# Altium schematic symbol library kmilo17pet-NSC_Interface.SchLib: 1433 symbols (part 50 of 51)
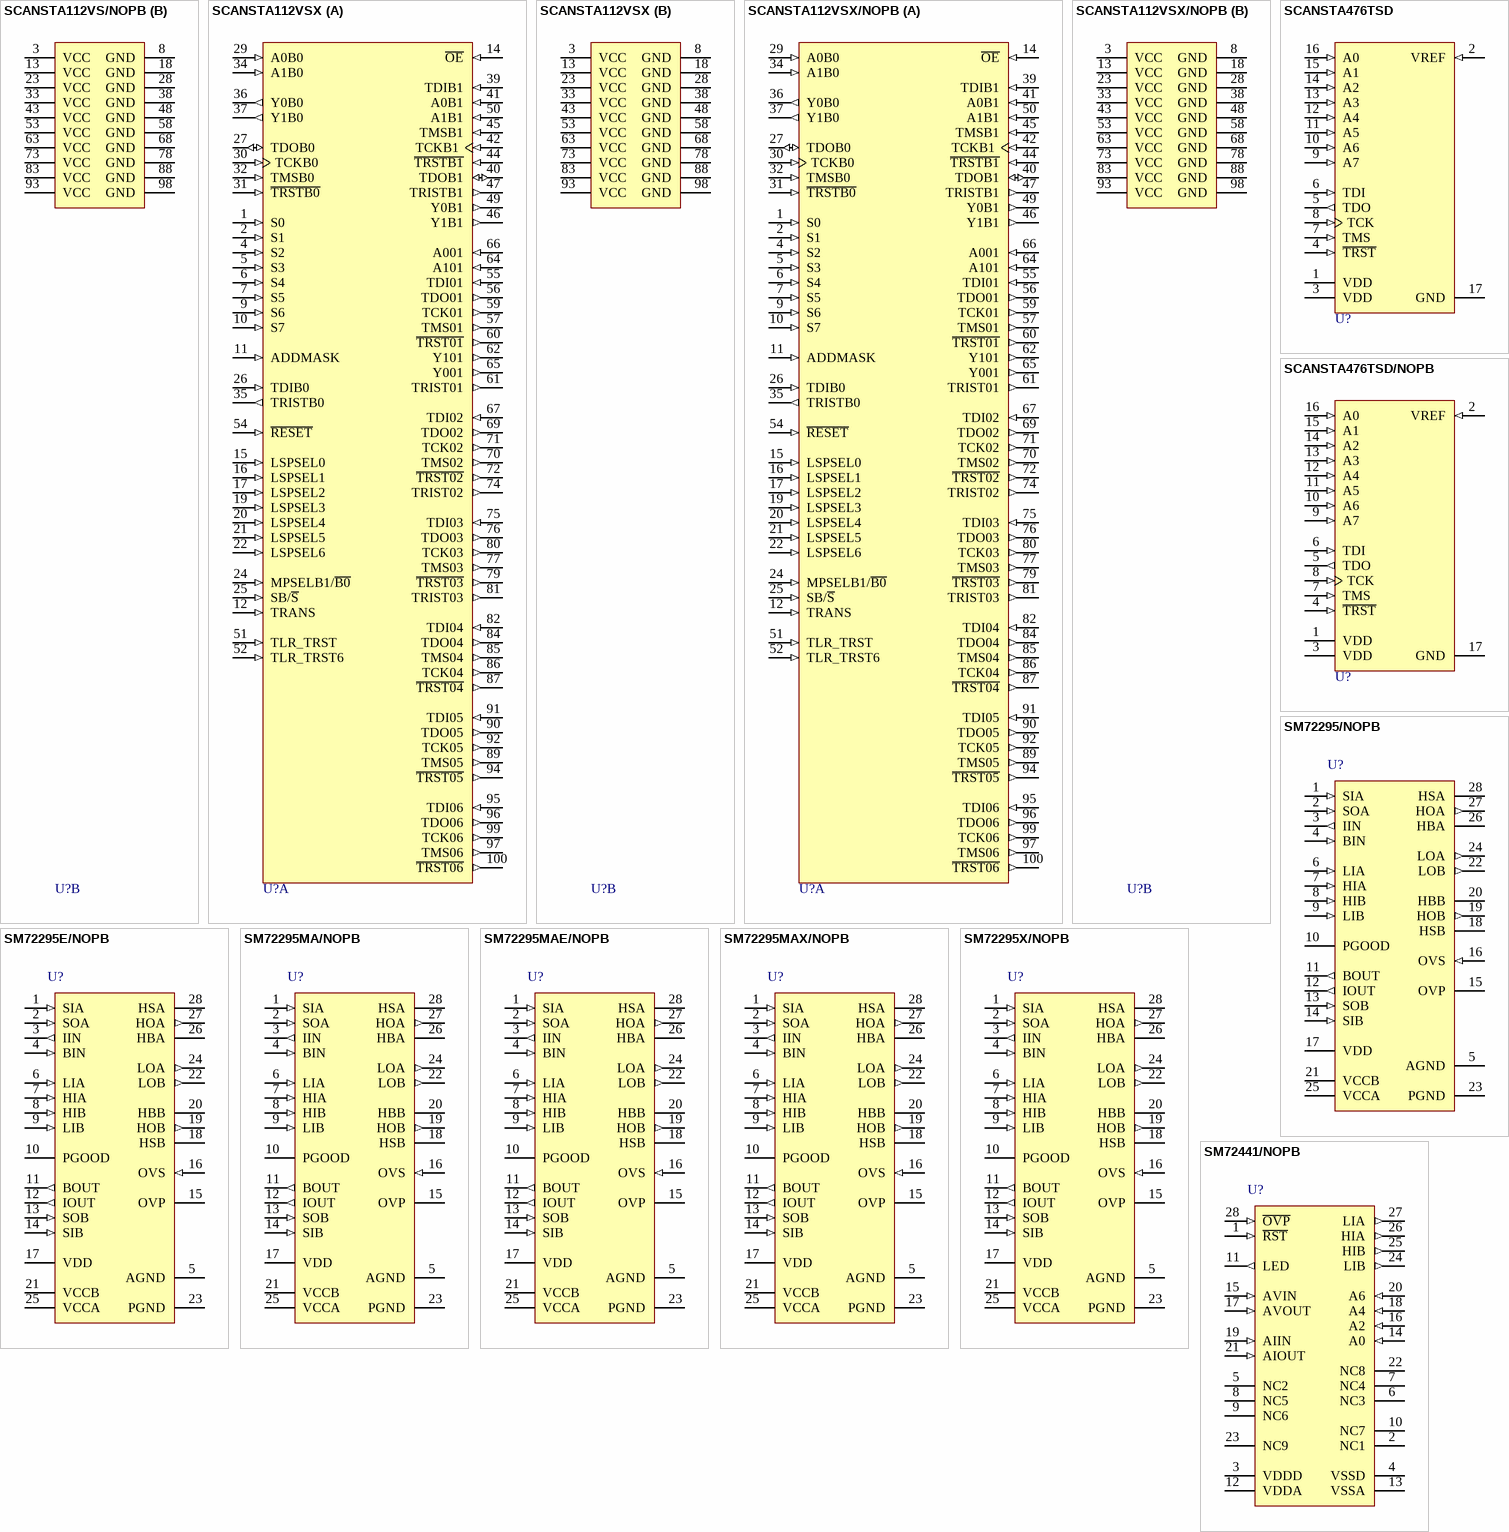
[diagram p173: symbols SCANSTA112VS/NOPB to SM72441/NOPB]

## SM72295/NOPB
designator U?
Photovoltaic Full Bridge Driver, 28-pin Wide SOIC, 28 Rail; PartNumber: SM72295/NOPB; Manufacturer: National Semiconductor; PackageTopMarking: NSUZXYTTE#*S72295; PowerWise: N; CompType: Interface IC; High-Reliability: Y; DatasheetVersion: Feb-2011; PackageVersion: revB, Nov-1997; PackageReference: M28B; PackageDescription: Molded Package, S.O., .300in Wide, 28 Lead; RoHS: Y; PinCount: 28; ComponentLink1Description: Manufacturer URL; ComponentLink1URL: http://www.national.com/; ComponentLink2Description: SM72295 Datasheet; ComponentLink2URL: http://www.national.com/ds/SM/SM72295.pdf; ComponentLink3Description: SM72295 Web Page; ComponentLink3URL: http://www.national.com/pf/SM/SM72295.html; ComponentLink4Description: M28B Package Page; ComponentLink4URL: http://www.national.com/packaging/folders/m28b.html
footprint M28B_N (SOIC, 28-Leads, Body 17.9x7.5mm, Pitch 1.27mm, IPC Medium Density)
footprint M28B_L (SOIC, 28-Leads, Body 17.9x7.5mm, Pitch 1.27mm, IPC High Density)
footprint M28B_M (SOIC, 28-Leads, Body 17.9x7.5mm, Pitch 1.27mm, IPC Low Density)
pins: 1 SIA (in) "Sense high input for input current sense transconductance amplifier", 2 SOA (in) "Sense low input for input current sense transconductance amplifier", 3 IIN (out) "Output for current sense transconductance amplifier", 4 BIN (in) "Buffered IIN", 5 AGND (power) "Analog ground", 6 LIA (in) "Low side driver control input", 7 HIA (in) "High side driver control input", 8 HIB (in) "High side driver control input", 9 LIB (in) "Low side driver control input", 10 PGOOD (oc) "Power good indicator output", 11 BOUT (out) "Buffered IOUT", 12 IOUT (out) "Output for current sense comparator.", 13 SOB (in) "Sense low input for output current sense amplifier", 14 SIB (in) "Sense high input for output current sense amplifier", 15 OVP (oc) "Over voltage indicator output", 16 OVS (in) "Sense input for over voltage", 17 VDD (power) "3.3V or 5V regulator output", 18 HSB "High side MOSFET source connection", 19 HOB (out) "High side gate driver output", 20 HBB "High side gate driver bootstrap rail.", 21 VCCB (power) "Positive gate drive supply", 22 LOB (out) "Low side gate driver output", 23 PGND (power) "Power ground return", 24 LOA (out) "Low side gate driver output", 25 VCCA (power) "Positive gate drive supply", 26 HBA "High side gate driver bootstrap rail.", 27 HOA (out) "High side gate driver output", 28 HSA "High side MOSFET source connection"

## SM72295E/NOPB
designator U?
Photovoltaic Full Bridge Driver, 28-pin Wide SOIC, 250 Reel; PartNumber: SM72295E/NOPB; Manufacturer: National Semiconductor; PackageTopMarking: NSUZXYTTE#*S72295; PowerWise: N; CompType: Interface IC; High-Reliability: Y; DatasheetVersion: Feb-2011; PackageVersion: revB, Nov-1997; PackageReference: M28B; PackageDescription: Molded Package, S.O., .300in Wide, 28 Lead; RoHS: Y; PinCount: 28; ComponentLink1Description: Manufacturer URL; ComponentLink1URL: http://www.national.com/; ComponentLink2Description: SM72295 Datasheet; ComponentLink2URL: http://www.national.com/ds/SM/SM72295.pdf; ComponentLink3Description: SM72295 Web Page; ComponentLink3URL: http://www.national.com/pf/SM/SM72295.html; ComponentLink4Description: M28B Package Page; ComponentLink4URL: http://www.national.com/packaging/folders/m28b.html
footprint M28B_N (SOIC, 28-Leads, Body 17.9x7.5mm, Pitch 1.27mm, IPC Medium Density)
footprint M28B_L (SOIC, 28-Leads, Body 17.9x7.5mm, Pitch 1.27mm, IPC High Density)
footprint M28B_M (SOIC, 28-Leads, Body 17.9x7.5mm, Pitch 1.27mm, IPC Low Density)
pins: 1 SIA (in) "Sense high input for input current sense transconductance amplifier", 2 SOA (in) "Sense low input for input current sense transconductance amplifier", 3 IIN (out) "Output for current sense transconductance amplifier", 4 BIN (in) "Buffered IIN", 5 AGND (power) "Analog ground", 6 LIA (in) "Low side driver control input", 7 HIA (in) "High side driver control input", 8 HIB (in) "High side driver control input", 9 LIB (in) "Low side driver control input", 10 PGOOD (oc) "Power good indicator output", 11 BOUT (out) "Buffered IOUT", 12 IOUT (out) "Output for current sense comparator.", 13 SOB (in) "Sense low input for output current sense amplifier", 14 SIB (in) "Sense high input for output current sense amplifier", 15 OVP (oc) "Over voltage indicator output", 16 OVS (in) "Sense input for over voltage", 17 VDD (power) "3.3V or 5V regulator output", 18 HSB "High side MOSFET source connection", 19 HOB (out) "High side gate driver output", 20 HBB "High side gate driver bootstrap rail.", 21 VCCB (power) "Positive gate drive supply", 22 LOB (out) "Low side gate driver output", 23 PGND (power) "Power ground return", 24 LOA (out) "Low side gate driver output", 25 VCCA (power) "Positive gate drive supply", 26 HBA "High side gate driver bootstrap rail.", 27 HOA (out) "High side gate driver output", 28 HSA "High side MOSFET source connection"

## SM72295MA/NOPB
designator U?
Photovoltaic Full Bridge Driver, 28-pin Wide SOIC, 26 Rail; PartNumber: SM72295MA/NOPB; Manufacturer: National Semiconductor; PackageTopMarking: NSUZXYTTE#*S72295; PowerWise: N; CompType: Interface IC; High-Reliability: Y; DatasheetVersion: Jun-2011; PackageVersion: revB, Nov-1997; PackageReference: M28B; PackageDescription: Molded Package, S.O., .300in Wide, 28 Lead; RoHS: Y; PinCount: 28; ComponentLink1Description: Manufacturer URL; ComponentLink1URL: http://www.national.com/; ComponentLink2Description: SM72295 Datasheet; ComponentLink2URL: http://www.national.com/ds/SM/SM72295.pdf; ComponentLink3Description: SM72295 Web Page; ComponentLink3URL: http://www.national.com/pf/SM/SM72295.html; ComponentLink4Description: M28B Package Page; ComponentLink4URL: http://www.national.com/packaging/folders/m28b.html
footprint M28B_N (SOIC, 28-Leads, Body 17.9x7.5mm, Pitch 1.27mm, IPC Medium Density)
footprint M28B_L (SOIC, 28-Leads, Body 17.9x7.5mm, Pitch 1.27mm, IPC High Density)
footprint M28B_M (SOIC, 28-Leads, Body 17.9x7.5mm, Pitch 1.27mm, IPC Low Density)
pins: 1 SIA (in) "Sense high input for input current sense transconductance amplifier", 2 SOA (in) "Sense low input for input current sense transconductance amplifier", 3 IIN (out) "Output for current sense transconductance amplifier", 4 BIN (in) "Buffered IIN", 5 AGND (power) "Analog ground", 6 LIA (in) "Low side driver control input", 7 HIA (in) "High side driver control input", 8 HIB (in) "High side driver control input", 9 LIB (in) "Low side driver control input", 10 PGOOD (oc) "Power good indicator output", 11 BOUT (out) "Buffered IOUT", 12 IOUT (out) "Output for current sense comparator.", 13 SOB (in) "Sense low input for output current sense amplifier", 14 SIB (in) "Sense high input for output current sense amplifier", 15 OVP (oc) "Over voltage indicator output", 16 OVS (in) "Sense input for over voltage", 17 VDD (power) "3.3V or 5V regulator output", 18 HSB "High side MOSFET source connection", 19 HOB (out) "High side gate driver output", 20 HBB "High side gate driver bootstrap rail.", 21 VCCB (power) "Positive gate drive supply", 22 LOB (out) "Low side gate driver output", 23 PGND (power) "Power ground return", 24 LOA (out) "Low side gate driver output", 25 VCCA (power) "Positive gate drive supply", 26 HBA "High side gate driver bootstrap rail.", 27 HOA (out) "High side gate driver output", 28 HSA "High side MOSFET source connection"

## SM72295MAE/NOPB
designator U?
Photovoltaic Full Bridge Driver, 28-pin Wide SOIC, 250 Reel; PartNumber: SM72295MAE/NOPB; Manufacturer: National Semiconductor; PackageTopMarking: NSUZXYTTE#*S72295; PowerWise: N; CompType: Interface IC; High-Reliability: Y; DatasheetVersion: Jun-2011; PackageVersion: revB, Nov-1997; PackageReference: M28B; PackageDescription: Molded Package, S.O., .300in Wide, 28 Lead; RoHS: Y; PinCount: 28; ComponentLink1Description: Manufacturer URL; ComponentLink1URL: http://www.national.com/; ComponentLink2Description: SM72295 Datasheet; ComponentLink2URL: http://www.national.com/ds/SM/SM72295.pdf; ComponentLink3Description: SM72295 Web Page; ComponentLink3URL: http://www.national.com/pf/SM/SM72295.html; ComponentLink4Description: M28B Package Page; ComponentLink4URL: http://www.national.com/packaging/folders/m28b.html
footprint M28B_N (SOIC, 28-Leads, Body 17.9x7.5mm, Pitch 1.27mm, IPC Medium Density)
footprint M28B_L (SOIC, 28-Leads, Body 17.9x7.5mm, Pitch 1.27mm, IPC High Density)
footprint M28B_M (SOIC, 28-Leads, Body 17.9x7.5mm, Pitch 1.27mm, IPC Low Density)
pins: 1 SIA (in) "Sense high input for input current sense transconductance amplifier", 2 SOA (in) "Sense low input for input current sense transconductance amplifier", 3 IIN (out) "Output for current sense transconductance amplifier", 4 BIN (in) "Buffered IIN", 5 AGND (power) "Analog ground", 6 LIA (in) "Low side driver control input", 7 HIA (in) "High side driver control input", 8 HIB (in) "High side driver control input", 9 LIB (in) "Low side driver control input", 10 PGOOD (oc) "Power good indicator output", 11 BOUT (out) "Buffered IOUT", 12 IOUT (out) "Output for current sense comparator.", 13 SOB (in) "Sense low input for output current sense amplifier", 14 SIB (in) "Sense high input for output current sense amplifier", 15 OVP (oc) "Over voltage indicator output", 16 OVS (in) "Sense input for over voltage", 17 VDD (power) "3.3V or 5V regulator output", 18 HSB "High side MOSFET source connection", 19 HOB (out) "High side gate driver output", 20 HBB "High side gate driver bootstrap rail.", 21 VCCB (power) "Positive gate drive supply", 22 LOB (out) "Low side gate driver output", 23 PGND (power) "Power ground return", 24 LOA (out) "Low side gate driver output", 25 VCCA (power) "Positive gate drive supply", 26 HBA "High side gate driver bootstrap rail.", 27 HOA (out) "High side gate driver output", 28 HSA "High side MOSFET source connection"

## SM72295MAX/NOPB
designator U?
Photovoltaic Full Bridge Driver, 28-pin Wide SOIC, 1000 Reel; PartNumber: SM72295MAX/NOPB; Manufacturer: National Semiconductor; PackageTopMarking: NSUZXYTTE#*S72295; PowerWise: N; CompType: Interface IC; High-Reliability: Y; DatasheetVersion: Jun-2011; PackageVersion: revB, Nov-1997; PackageReference: M28B; PackageDescription: Molded Package, S.O., .300in Wide, 28 Lead; RoHS: Y; PinCount: 28; ComponentLink1Description: Manufacturer URL; ComponentLink1URL: http://www.national.com/; ComponentLink2Description: SM72295 Datasheet; ComponentLink2URL: http://www.national.com/ds/SM/SM72295.pdf; ComponentLink3Description: SM72295 Web Page; ComponentLink3URL: http://www.national.com/pf/SM/SM72295.html; ComponentLink4Description: M28B Package Page; ComponentLink4URL: http://www.national.com/packaging/folders/m28b.html
footprint M28B_N (SOIC, 28-Leads, Body 17.9x7.5mm, Pitch 1.27mm, IPC Medium Density)
footprint M28B_L (SOIC, 28-Leads, Body 17.9x7.5mm, Pitch 1.27mm, IPC High Density)
footprint M28B_M (SOIC, 28-Leads, Body 17.9x7.5mm, Pitch 1.27mm, IPC Low Density)
pins: 1 SIA (in) "Sense high input for input current sense transconductance amplifier", 2 SOA (in) "Sense low input for input current sense transconductance amplifier", 3 IIN (out) "Output for current sense transconductance amplifier", 4 BIN (in) "Buffered IIN", 5 AGND (power) "Analog ground", 6 LIA (in) "Low side driver control input", 7 HIA (in) "High side driver control input", 8 HIB (in) "High side driver control input", 9 LIB (in) "Low side driver control input", 10 PGOOD (oc) "Power good indicator output", 11 BOUT (out) "Buffered IOUT", 12 IOUT (out) "Output for current sense comparator.", 13 SOB (in) "Sense low input for output current sense amplifier", 14 SIB (in) "Sense high input for output current sense amplifier", 15 OVP (oc) "Over voltage indicator output", 16 OVS (in) "Sense input for over voltage", 17 VDD (power) "3.3V or 5V regulator output", 18 HSB "High side MOSFET source connection", 19 HOB (out) "High side gate driver output", 20 HBB "High side gate driver bootstrap rail.", 21 VCCB (power) "Positive gate drive supply", 22 LOB (out) "Low side gate driver output", 23 PGND (power) "Power ground return", 24 LOA (out) "Low side gate driver output", 25 VCCA (power) "Positive gate drive supply", 26 HBA "High side gate driver bootstrap rail.", 27 HOA (out) "High side gate driver output", 28 HSA "High side MOSFET source connection"

## SM72295X/NOPB
designator U?
Photovoltaic Full Bridge Driver, 28-pin Wide SOIC, 1000 Reel; PartNumber: SM72295X/NOPB; Manufacturer: National Semiconductor; PackageTopMarking: NSUZXYTTE#*S72295; PowerWise: N; CompType: Interface IC; High-Reliability: Y; DatasheetVersion: Feb-2011; PackageVersion: revB, Nov-1997; PackageReference: M28B; PackageDescription: Molded Package, S.O., .300in Wide, 28 Lead; RoHS: Y; PinCount: 28; ComponentLink1Description: Manufacturer URL; ComponentLink1URL: http://www.national.com/; ComponentLink2Description: SM72295 Datasheet; ComponentLink2URL: http://www.national.com/ds/SM/SM72295.pdf; ComponentLink3Description: SM72295 Web Page; ComponentLink3URL: http://www.national.com/pf/SM/SM72295.html; ComponentLink4Description: M28B Package Page; ComponentLink4URL: http://www.national.com/packaging/folders/m28b.html
footprint M28B_N (SOIC, 28-Leads, Body 17.9x7.5mm, Pitch 1.27mm, IPC Medium Density)
footprint M28B_L (SOIC, 28-Leads, Body 17.9x7.5mm, Pitch 1.27mm, IPC High Density)
footprint M28B_M (SOIC, 28-Leads, Body 17.9x7.5mm, Pitch 1.27mm, IPC Low Density)
pins: 1 SIA (in) "Sense high input for input current sense transconductance amplifier", 2 SOA (in) "Sense low input for input current sense transconductance amplifier", 3 IIN (out) "Output for current sense transconductance amplifier", 4 BIN (in) "Buffered IIN", 5 AGND (power) "Analog ground", 6 LIA (in) "Low side driver control input", 7 HIA (in) "High side driver control input", 8 HIB (in) "High side driver control input", 9 LIB (in) "Low side driver control input", 10 PGOOD (oc) "Power good indicator output", 11 BOUT (out) "Buffered IOUT", 12 IOUT (out) "Output for current sense comparator.", 13 SOB (in) "Sense low input for output current sense amplifier", 14 SIB (in) "Sense high input for output current sense amplifier", 15 OVP (oc) "Over voltage indicator output", 16 OVS (in) "Sense input for over voltage", 17 VDD (power) "3.3V or 5V regulator output", 18 HSB "High side MOSFET source connection", 19 HOB (out) "High side gate driver output", 20 HBB "High side gate driver bootstrap rail.", 21 VCCB (power) "Positive gate drive supply", 22 LOB (out) "Low side gate driver output", 23 PGND (power) "Power ground return", 24 LOA (out) "Low side gate driver output", 25 VCCA (power) "Positive gate drive supply", 26 HBA "High side gate driver bootstrap rail.", 27 HOA (out) "High side gate driver output", 28 HSA "High side MOSFET source connection"

## SM72441/NOPB
designator U?
Programmable Maximum Power Point Tracking Controller for Photovoltaic Solar Panels, 28-pin TSSOP; PartNumber: SM72441/NOPB; Manufacturer: National Semiconductor; PackageTopMarking: NSUZXYTTE#*S72441; PowerWise: N; CompType: Interface IC; High-Reliability: Y; DatasheetVersion: Feb-2011; PackageVersion: revD, Jan-2005; PackageReference: MTC28; PackageDescription: Molded TSSOP, Jedec, 9.7 x 4.4 x 0.9mm Body, 28 Lead, 0.65mm Pitch; RoHS: Y; PinCount: 28; Code_JEDEC: MO-153-AE; ComponentLink1Description: Manufacturer URL; ComponentLink1URL: http://www.national.com/; ComponentLink2Description: SM72441 Datasheet; ComponentLink2URL: http://www.national.com/ds/SM/SM72441.pdf; ComponentLink3Description: SM72441 Web Page; ComponentLink3URL: http://www.national.com/pf/SM/SM72441.html; ComponentLink4Description: MTC28 Package Page; ComponentLink4URL: http://www.national.com/packaging/folders/mtc28.html
footprint MTC28_N (TSOP, 28-Leads, Body 9.7x4.4mm, Pitch 0.65mm, IPC Medium Density)
footprint MTC28_L (TSOP, 28-Leads, Body 9.7x4.4mm, Pitch 0.65mm, IPC High Density)
footprint MTC28_M (TSOP, 28-Leads, Body 9.7x4.4mm, Pitch 0.65mm, IPC Low Density)
pins: 1 ~{RST} (in) "Active low signal. External reset input signal to the digital circuit.", 2 NC1 "No Connect. This pin should be grounded", 3 VDDD (power) "Digital supply voltage.", 4 VSSD (power) "Digital ground. The ground return for the digital supply and signals.", 5 NC2 "No Connect. This pin should be pulled up to the 5V supply using 10k resistor.", 6 NC3 "No Connect. This pin should be grounded using a 10k resistor.", 7 NC4 "No Connect. This pin should be grounded using a 10k resistor.", 8 NC5 "No Connect. This pin should be pulled up to 5V supply using 10k resistor.", 9 NC6 "No Connect. This pin should be pulled up to 5V supply using 10k resistor.", 10 NC7 "No Connect. This pin should be grounded", 11 LED (out) "LED pin outputs a pulse during normal operation", 12 VDDA (power) "Analog supply voltage. This voltage is also used as the reference voltage.", 13 VSSA (power) "Analog ground. The ground return for the analog supply and signals.", 14 A0 (in) "A/D Input Channel 0. Connect a resistor divider to 5V supply to set the maximum output voltage.", 15 AVIN (in) "A/D Input to sense input voltage", 16 A2 (in) "A/D Input Channel 2. Connect a resistor divider to 5V supply to set MPPT update rate.", 17 AVOUT (in) "A/D Input to sense the output voltage.", 18 A4 (in) "A/D Input Channel 4. Connect a resistor divider to 5V supply to set the maximum output current.", 19 AIIN (in) "A/D Input to sense input current.", 20 A6 (in) "A/D Input Channel 6. Connect a resistor divider to 5V supply to set the maximum output voltage slew rate.", 21 AIOUT (in) "A/D Input to sense the output current.", 22 NC8 "No Connect. This pin should be grounded using a 10k resistor.", 23 NC9 "No Connect. This pin should be connected with 150k pull-up resistor to 5V supply.", 24 LIB (out) "Low side boost PWM output", 25 HIB (out) "High side boost PWM output", 26 HIA (out) "High side buck PWM output", 27 LIA (out) "Low side buck PWM output", 28 ~{OVP} (in) "Overvoltage Protection Pin. Active Low. SM72441 will reset once voltage on this pin drops below its threshold voltage."

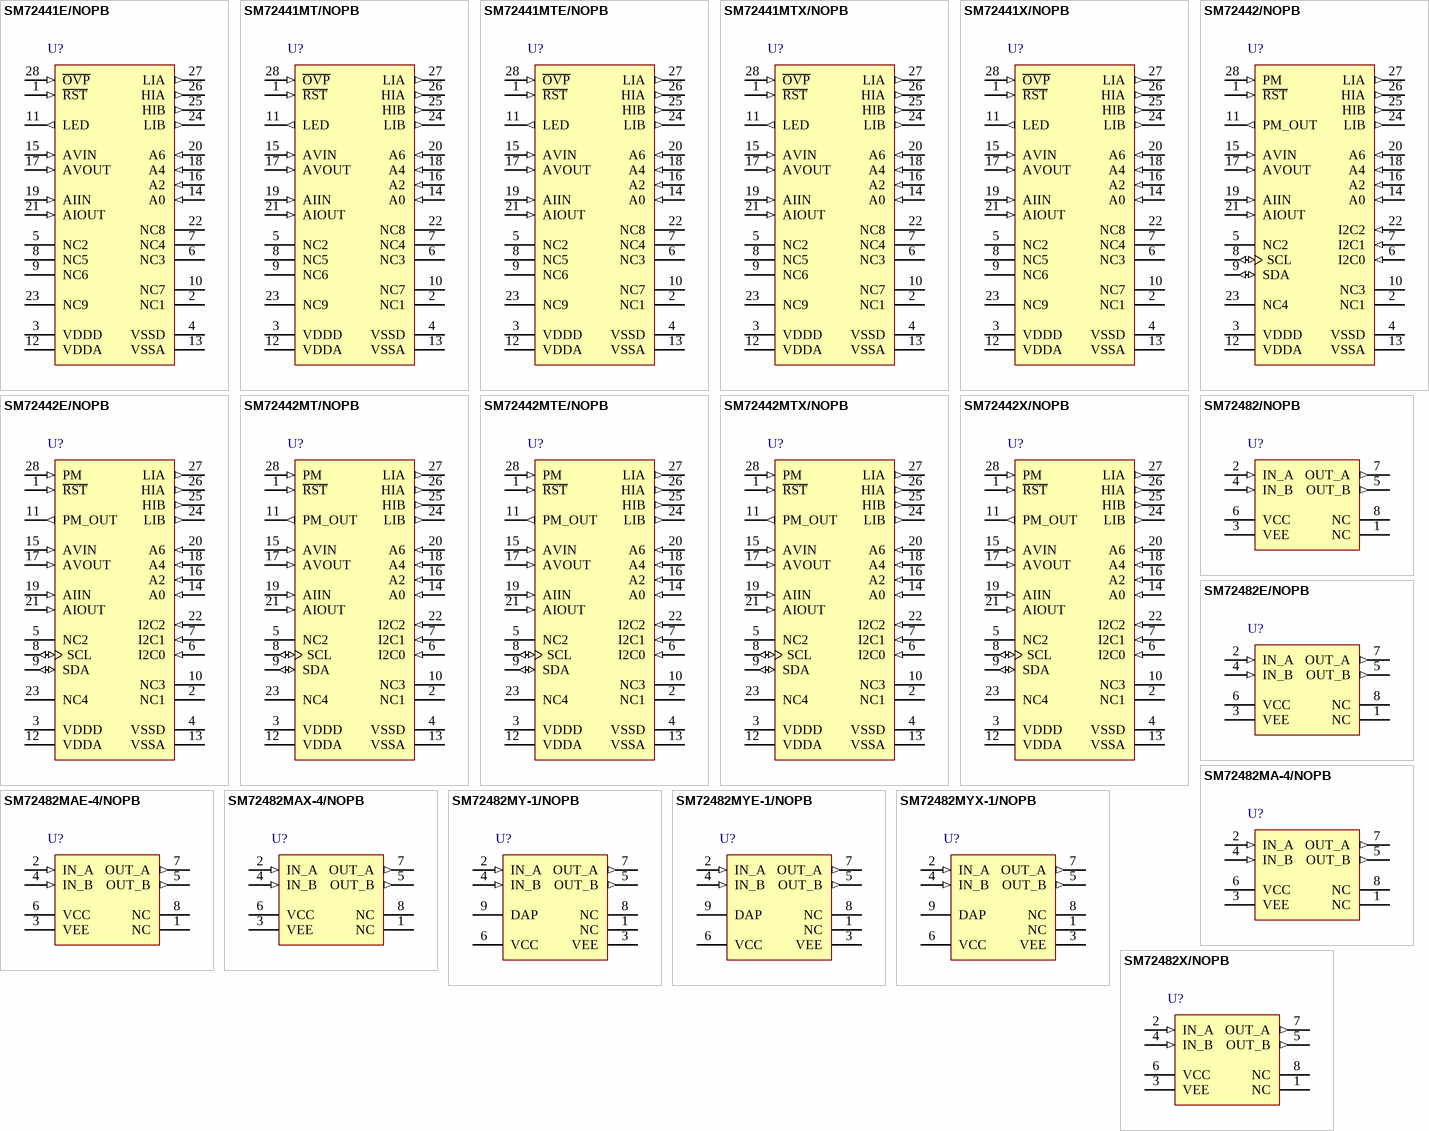
[diagram p124: symbols SM72441E/NOPB to SM72482X/NOPB]

## SM72441E/NOPB
designator U?
Programmable Maximum Power Point Tracking Controller for Photovoltaic Solar Panels, 28-pin TSSOP; PartNumber: SM72441E/NOPB; Manufacturer: National Semiconductor; PackageTopMarking: NSUZXYTTE#*S72441; PowerWise: N; CompType: Interface IC; High-Reliability: Y; DatasheetVersion: Feb-2011; PackageVersion: revD, Jan-2005; PackageReference: MTC28; PackageDescription: Molded TSSOP, Jedec, 9.7 x 4.4 x 0.9mm Body, 28 Lead, 0.65mm Pitch; RoHS: Y; PinCount: 28; Code_JEDEC: MO-153-AE; ComponentLink1Description: Manufacturer URL; ComponentLink1URL: http://www.national.com/; ComponentLink2Description: SM72441 Datasheet; ComponentLink2URL: http://www.national.com/ds/SM/SM72441.pdf; ComponentLink3Description: SM72441 Web Page; ComponentLink3URL: http://www.national.com/pf/SM/SM72441.html; ComponentLink4Description: MTC28 Package Page; ComponentLink4URL: http://www.national.com/packaging/folders/mtc28.html
footprint MTC28_N (TSOP, 28-Leads, Body 9.7x4.4mm, Pitch 0.65mm, IPC Medium Density)
footprint MTC28_L (TSOP, 28-Leads, Body 9.7x4.4mm, Pitch 0.65mm, IPC High Density)
footprint MTC28_M (TSOP, 28-Leads, Body 9.7x4.4mm, Pitch 0.65mm, IPC Low Density)
pins: 1 ~{RST} (in) "Active low signal. External reset input signal to the digital circuit.", 2 NC1 "No Connect. This pin should be grounded", 3 VDDD (power) "Digital supply voltage.", 4 VSSD (power) "Digital ground. The ground return for the digital supply and signals.", 5 NC2 "No Connect. This pin should be pulled up to the 5V supply using 10k resistor.", 6 NC3 "No Connect. This pin should be grounded using a 10k resistor.", 7 NC4 "No Connect. This pin should be grounded using a 10k resistor.", 8 NC5 "No Connect. This pin should be pulled up to 5V supply using 10k resistor.", 9 NC6 "No Connect. This pin should be pulled up to 5V supply using 10k resistor.", 10 NC7 "No Connect. This pin should be grounded", 11 LED (out) "LED pin outputs a pulse during normal operation", 12 VDDA (power) "Analog supply voltage. This voltage is also used as the reference voltage.", 13 VSSA (power) "Analog ground. The ground return for the analog supply and signals.", 14 A0 (in) "A/D Input Channel 0. Connect a resistor divider to 5V supply to set the maximum output voltage.", 15 AVIN (in) "A/D Input to sense input voltage", 16 A2 (in) "A/D Input Channel 2. Connect a resistor divider to 5V supply to set MPPT update rate.", 17 AVOUT (in) "A/D Input to sense the output voltage.", 18 A4 (in) "A/D Input Channel 4. Connect a resistor divider to 5V supply to set the maximum output current.", 19 AIIN (in) "A/D Input to sense input current.", 20 A6 (in) "A/D Input Channel 6. Connect a resistor divider to 5V supply to set the maximum output voltage slew rate.", 21 AIOUT (in) "A/D Input to sense the output current.", 22 NC8 "No Connect. This pin should be grounded using a 10k resistor.", 23 NC9 "No Connect. This pin should be connected with 150k pull-up resistor to 5V supply.", 24 LIB (out) "Low side boost PWM output", 25 HIB (out) "High side boost PWM output", 26 HIA (out) "High side buck PWM output", 27 LIA (out) "Low side buck PWM output", 28 ~{OVP} (in) "Overvoltage Protection Pin. Active Low. SM72441 will reset once voltage on this pin drops below its threshold voltage."

## SM72441MT/NOPB
designator U?
Programmable Maximum Power Point Tracking Controller for Photovoltaic Solar Panels, 28-pin TSSOP, Rail; PartNumber: SM72441MT/NOPB; Manufacturer: National Semiconductor; PackageTopMarking: NSUZXYTTE#*S72441; PowerWise: N; CompType: Interface IC; High-Reliability: Y; DatasheetVersion: Jun-2011; PackageVersion: revD, Jan-2005; PackageReference: MTC28; PackageDescription: Molded TSSOP, Jedec, 9.7 x 4.4 x 0.9mm Body, 28 Lead, 0.65mm Pitch; RoHS: Y; PinCount: 28; Code_JEDEC: MO-153-AE; ComponentLink1Description: Manufacturer URL; ComponentLink1URL: http://www.national.com/; ComponentLink2Description: SM72441 Datasheet; ComponentLink2URL: http://www.national.com/ds/SM/SM72441.pdf; ComponentLink3Description: SM72441 Web Page; ComponentLink3URL: http://www.national.com/pf/SM/SM72441.html; ComponentLink4Description: MTC28 Package Page; ComponentLink4URL: http://www.national.com/packaging/folders/mtc28.html
footprint MTC28_N (TSOP, 28-Leads, Body 9.7x4.4mm, Pitch 0.65mm, IPC Medium Density)
footprint MTC28_L (TSOP, 28-Leads, Body 9.7x4.4mm, Pitch 0.65mm, IPC High Density)
footprint MTC28_M (TSOP, 28-Leads, Body 9.7x4.4mm, Pitch 0.65mm, IPC Low Density)
pins: 1 ~{RST} (in) "Active low signal. External reset input signal to the digital circuit.", 2 NC1 "No Connect. This pin should be grounded", 3 VDDD (power) "Digital supply voltage.", 4 VSSD (power) "Digital ground. The ground return for the digital supply and signals.", 5 NC2 "No Connect. This pin should be pulled up to the 5V supply using 10k resistor.", 6 NC3 "No Connect. This pin should be grounded using a 10k resistor.", 7 NC4 "No Connect. This pin should be grounded using a 10k resistor.", 8 NC5 "No Connect. This pin should be pulled up to 5V supply using 10k resistor.", 9 NC6 "No Connect. This pin should be pulled up to 5V supply using 10k resistor.", 10 NC7 "No Connect. This pin should be grounded", 11 LED (out) "LED pin outputs a pulse during normal operation", 12 VDDA (power) "Analog supply voltage. This voltage is also used as the reference voltage.", 13 VSSA (power) "Analog ground. The ground return for the analog supply and signals.", 14 A0 (in) "A/D Input Channel 0. Connect a resistor divider to 5V supply to set the maximum output voltage.", 15 AVIN (in) "A/D Input to sense input voltage", 16 A2 (in) "A/D Input Channel 2. Connect a resistor divider to 5V supply to set MPPT update rate.", 17 AVOUT (in) "A/D Input to sense the output voltage.", 18 A4 (in) "A/D Input Channel 4. Connect a resistor divider to 5V supply to set the maximum output current.", 19 AIIN (in) "A/D Input to sense input current.", 20 A6 (in) "A/D Input Channel 6. Connect a resistor divider to 5V supply to set the maximum output voltage slew rate.", 21 AIOUT (in) "A/D Input to sense the output current.", 22 NC8 "No Connect. This pin should be grounded using a 10k resistor.", 23 NC9 "No Connect. This pin should be connected with 150k pull-up resistor to 5V supply.", 24 LIB (out) "Low side boost PWM output", 25 HIB (out) "High side boost PWM output", 26 HIA (out) "High side buck PWM output", 27 LIA (out) "Low side buck PWM output", 28 ~{OVP} (in) "Overvoltage Protection Pin. Active Low. SM72441 will reset once voltage on this pin drops below its threshold voltage."

## SM72441MTE/NOPB
designator U?
Programmable Maximum Power Point Tracking Controller for Photovoltaic Solar Panels, 28-pin TSSOP, Reel; PartNumber: SM72441MTE/NOPB; Manufacturer: National Semiconductor; PackageTopMarking: NSUZXYTTE#*S72441; PowerWise: N; CompType: Interface IC; High-Reliability: Y; DatasheetVersion: Jun-2011; PackageVersion: revD, Jan-2005; PackageReference: MTC28; PackageDescription: Molded TSSOP, Jedec, 9.7 x 4.4 x 0.9mm Body, 28 Lead, 0.65mm Pitch; RoHS: Y; PinCount: 28; Code_JEDEC: MO-153-AE; ComponentLink1Description: Manufacturer URL; ComponentLink1URL: http://www.national.com/; ComponentLink2Description: SM72441 Datasheet; ComponentLink2URL: http://www.national.com/ds/SM/SM72441.pdf; ComponentLink3Description: SM72441 Web Page; ComponentLink3URL: http://www.national.com/pf/SM/SM72441.html; ComponentLink4Description: MTC28 Package Page; ComponentLink4URL: http://www.national.com/packaging/folders/mtc28.html
footprint MTC28_N (TSOP, 28-Leads, Body 9.7x4.4mm, Pitch 0.65mm, IPC Medium Density)
footprint MTC28_L (TSOP, 28-Leads, Body 9.7x4.4mm, Pitch 0.65mm, IPC High Density)
footprint MTC28_M (TSOP, 28-Leads, Body 9.7x4.4mm, Pitch 0.65mm, IPC Low Density)
pins: 1 ~{RST} (in) "Active low signal. External reset input signal to the digital circuit.", 2 NC1 "No Connect. This pin should be grounded", 3 VDDD (power) "Digital supply voltage.", 4 VSSD (power) "Digital ground. The ground return for the digital supply and signals.", 5 NC2 "No Connect. This pin should be pulled up to the 5V supply using 10k resistor.", 6 NC3 "No Connect. This pin should be grounded using a 10k resistor.", 7 NC4 "No Connect. This pin should be grounded using a 10k resistor.", 8 NC5 "No Connect. This pin should be pulled up to 5V supply using 10k resistor.", 9 NC6 "No Connect. This pin should be pulled up to 5V supply using 10k resistor.", 10 NC7 "No Connect. This pin should be grounded", 11 LED (out) "LED pin outputs a pulse during normal operation", 12 VDDA (power) "Analog supply voltage. This voltage is also used as the reference voltage.", 13 VSSA (power) "Analog ground. The ground return for the analog supply and signals.", 14 A0 (in) "A/D Input Channel 0. Connect a resistor divider to 5V supply to set the maximum output voltage.", 15 AVIN (in) "A/D Input to sense input voltage", 16 A2 (in) "A/D Input Channel 2. Connect a resistor divider to 5V supply to set MPPT update rate.", 17 AVOUT (in) "A/D Input to sense the output voltage.", 18 A4 (in) "A/D Input Channel 4. Connect a resistor divider to 5V supply to set the maximum output current.", 19 AIIN (in) "A/D Input to sense input current.", 20 A6 (in) "A/D Input Channel 6. Connect a resistor divider to 5V supply to set the maximum output voltage slew rate.", 21 AIOUT (in) "A/D Input to sense the output current.", 22 NC8 "No Connect. This pin should be grounded using a 10k resistor.", 23 NC9 "No Connect. This pin should be connected with 150k pull-up resistor to 5V supply.", 24 LIB (out) "Low side boost PWM output", 25 HIB (out) "High side boost PWM output", 26 HIA (out) "High side buck PWM output", 27 LIA (out) "Low side buck PWM output", 28 ~{OVP} (in) "Overvoltage Protection Pin. Active Low. SM72441 will reset once voltage on this pin drops below its threshold voltage."

## SM72441MTX/NOPB
designator U?
Programmable Maximum Power Point Tracking Controller for Photovoltaic Solar Panels, 28-pin TSSOP, Reel; PartNumber: SM72441MTX/NOPB; Manufacturer: National Semiconductor; PackageTopMarking: NSUZXYTTE#*S72441; PowerWise: N; CompType: Interface IC; High-Reliability: Y; DatasheetVersion: Jun-2011; PackageVersion: revD, Jan-2005; PackageReference: MTC28; PackageDescription: Molded TSSOP, Jedec, 9.7 x 4.4 x 0.9mm Body, 28 Lead, 0.65mm Pitch; RoHS: Y; PinCount: 28; Code_JEDEC: MO-153-AE; ComponentLink1Description: Manufacturer URL; ComponentLink1URL: http://www.national.com/; ComponentLink2Description: SM72441 Datasheet; ComponentLink2URL: http://www.national.com/ds/SM/SM72441.pdf; ComponentLink3Description: SM72441 Web Page; ComponentLink3URL: http://www.national.com/pf/SM/SM72441.html; ComponentLink4Description: MTC28 Package Page; ComponentLink4URL: http://www.national.com/packaging/folders/mtc28.html
footprint MTC28_N (TSOP, 28-Leads, Body 9.7x4.4mm, Pitch 0.65mm, IPC Medium Density)
footprint MTC28_L (TSOP, 28-Leads, Body 9.7x4.4mm, Pitch 0.65mm, IPC High Density)
footprint MTC28_M (TSOP, 28-Leads, Body 9.7x4.4mm, Pitch 0.65mm, IPC Low Density)
pins: 1 ~{RST} (in) "Active low signal. External reset input signal to the digital circuit.", 2 NC1 "No Connect. This pin should be grounded", 3 VDDD (power) "Digital supply voltage.", 4 VSSD (power) "Digital ground. The ground return for the digital supply and signals.", 5 NC2 "No Connect. This pin should be pulled up to the 5V supply using 10k resistor.", 6 NC3 "No Connect. This pin should be grounded using a 10k resistor.", 7 NC4 "No Connect. This pin should be grounded using a 10k resistor.", 8 NC5 "No Connect. This pin should be pulled up to 5V supply using 10k resistor.", 9 NC6 "No Connect. This pin should be pulled up to 5V supply using 10k resistor.", 10 NC7 "No Connect. This pin should be grounded", 11 LED (out) "LED pin outputs a pulse during normal operation", 12 VDDA (power) "Analog supply voltage. This voltage is also used as the reference voltage.", 13 VSSA (power) "Analog ground. The ground return for the analog supply and signals.", 14 A0 (in) "A/D Input Channel 0. Connect a resistor divider to 5V supply to set the maximum output voltage.", 15 AVIN (in) "A/D Input to sense input voltage", 16 A2 (in) "A/D Input Channel 2. Connect a resistor divider to 5V supply to set MPPT update rate.", 17 AVOUT (in) "A/D Input to sense the output voltage.", 18 A4 (in) "A/D Input Channel 4. Connect a resistor divider to 5V supply to set the maximum output current.", 19 AIIN (in) "A/D Input to sense input current.", 20 A6 (in) "A/D Input Channel 6. Connect a resistor divider to 5V supply to set the maximum output voltage slew rate.", 21 AIOUT (in) "A/D Input to sense the output current.", 22 NC8 "No Connect. This pin should be grounded using a 10k resistor.", 23 NC9 "No Connect. This pin should be connected with 150k pull-up resistor to 5V supply.", 24 LIB (out) "Low side boost PWM output", 25 HIB (out) "High side boost PWM output", 26 HIA (out) "High side buck PWM output", 27 LIA (out) "Low side buck PWM output", 28 ~{OVP} (in) "Overvoltage Protection Pin. Active Low. SM72441 will reset once voltage on this pin drops below its threshold voltage."

## SM72441X/NOPB
designator U?
Programmable Maximum Power Point Tracking Controller for Photovoltaic Solar Panels, 28-pin TSSOP; PartNumber: SM72441X/NOPB; Manufacturer: National Semiconductor; PackageTopMarking: NSUZXYTTE#*S72441; PowerWise: N; CompType: Interface IC; High-Reliability: Y; DatasheetVersion: Feb-2011; PackageVersion: revD, Jan-2005; PackageReference: MTC28; PackageDescription: Molded TSSOP, Jedec, 9.7 x 4.4 x 0.9mm Body, 28 Lead, 0.65mm Pitch; RoHS: Y; PinCount: 28; Code_JEDEC: MO-153-AE; ComponentLink1Description: Manufacturer URL; ComponentLink1URL: http://www.national.com/; ComponentLink2Description: SM72441 Datasheet; ComponentLink2URL: http://www.national.com/ds/SM/SM72441.pdf; ComponentLink3Description: SM72441 Web Page; ComponentLink3URL: http://www.national.com/pf/SM/SM72441.html; ComponentLink4Description: MTC28 Package Page; ComponentLink4URL: http://www.national.com/packaging/folders/mtc28.html
footprint MTC28_N (TSOP, 28-Leads, Body 9.7x4.4mm, Pitch 0.65mm, IPC Medium Density)
footprint MTC28_L (TSOP, 28-Leads, Body 9.7x4.4mm, Pitch 0.65mm, IPC High Density)
footprint MTC28_M (TSOP, 28-Leads, Body 9.7x4.4mm, Pitch 0.65mm, IPC Low Density)
pins: 1 ~{RST} (in) "Active low signal. External reset input signal to the digital circuit.", 2 NC1 "No Connect. This pin should be grounded", 3 VDDD (power) "Digital supply voltage.", 4 VSSD (power) "Digital ground. The ground return for the digital supply and signals.", 5 NC2 "No Connect. This pin should be pulled up to the 5V supply using 10k resistor.", 6 NC3 "No Connect. This pin should be grounded using a 10k resistor.", 7 NC4 "No Connect. This pin should be grounded using a 10k resistor.", 8 NC5 "No Connect. This pin should be pulled up to 5V supply using 10k resistor.", 9 NC6 "No Connect. This pin should be pulled up to 5V supply using 10k resistor.", 10 NC7 "No Connect. This pin should be grounded", 11 LED (out) "LED pin outputs a pulse during normal operation", 12 VDDA (power) "Analog supply voltage. This voltage is also used as the reference voltage.", 13 VSSA (power) "Analog ground. The ground return for the analog supply and signals.", 14 A0 (in) "A/D Input Channel 0. Connect a resistor divider to 5V supply to set the maximum output voltage.", 15 AVIN (in) "A/D Input to sense input voltage", 16 A2 (in) "A/D Input Channel 2. Connect a resistor divider to 5V supply to set MPPT update rate.", 17 AVOUT (in) "A/D Input to sense the output voltage.", 18 A4 (in) "A/D Input Channel 4. Connect a resistor divider to 5V supply to set the maximum output current.", 19 AIIN (in) "A/D Input to sense input current.", 20 A6 (in) "A/D Input Channel 6. Connect a resistor divider to 5V supply to set the maximum output voltage slew rate.", 21 AIOUT (in) "A/D Input to sense the output current.", 22 NC8 "No Connect. This pin should be grounded using a 10k resistor.", 23 NC9 "No Connect. This pin should be connected with 150k pull-up resistor to 5V supply.", 24 LIB (out) "Low side boost PWM output", 25 HIB (out) "High side boost PWM output", 26 HIA (out) "High side buck PWM output", 27 LIA (out) "Low side buck PWM output", 28 ~{OVP} (in) "Overvoltage Protection Pin. Active Low. SM72441 will reset once voltage on this pin drops below its threshold voltage."

## SM72442/NOPB
designator U?
Programmable Maximum Power Point Tracking Controller for Photovoltaic Solar Panels, 28-pin TSSOP, 2500 Reel; PartNumber: SM72442/NOPB; Manufacturer: National Semiconductor; PackageTopMarking: NSUZXYTTE#*S02442; PowerWise: N; CompType: Interface IC; High-Reliability: Y; DatasheetVersion: Feb-2011; PackageVersion: revD, Jan-2005; PackageReference: MTC28; PackageDescription: Molded TSSOP, Jedec, 9.7 x 4.4 x 0.9mm Body, 28 Lead, 0.65mm Pitch; RoHS: Y; PinCount: 28; Code_JEDEC: MO-153-AE; ComponentLink1Description: Manufacturer URL; ComponentLink1URL: http://www.national.com/; ComponentLink2Description: SM72442 Datasheet; ComponentLink2URL: http://www.national.com/ds/SM/SM72442.pdf; ComponentLink3Description: SM72442 Web Page; ComponentLink3URL: http://www.national.com/pf/SM/SM72442.html; ComponentLink4Description: MTC28 Package Page; ComponentLink4URL: http://www.national.com/packaging/folders/mtc28.html
footprint MTC28_N (TSOP, 28-Leads, Body 9.7x4.4mm, Pitch 0.65mm, IPC Medium Density)
footprint MTC28_L (TSOP, 28-Leads, Body 9.7x4.4mm, Pitch 0.65mm, IPC High Density)
footprint MTC28_M (TSOP, 28-Leads, Body 9.7x4.4mm, Pitch 0.65mm, IPC Low Density)
pins: 1 ~{RST} (in) "Active low signal. External reset input signal to the digital circuit.", 2 NC1 "Reserved for test only. This pin should be grounded", 3 VDDD (power) "Digital supply voltage.", 4 VSSD (power) "Digital ground. The ground return for the digital supply and signals.", 5 NC2 "No Connect. This pin should be pulled up to the 5V supply using 10k resistor", 6 I2C0 (in) "Addressing for I2C communication", 7 I2C1 (in) "Addressing for I2C communication", 8 SCL (io) "I2C clock", 9 SDA (io) "I2C data", 10 NC3 "Reserved for test only. This pin should be grounded", 11 PM_OUT (out) "When Panel Mode is active, this pin will output a 400 kHz square wave signal with amplitude of 5V. Otherwise, it will stays low", 12 VDDA (power) "Analog supply voltage. This voltage is also used as the reference voltage.", 13 VSSA (power) "Analog ground. The ground return for the analog supply and signals.", 14 A0 (in) "A/D Input Channel 0. Connect a resistor divider to 5V supply to set the maximum output voltage.", 15 AVIN (in) "Input voltage sensing pin", 16 A2 (in) "A/D Input Channel 2. Connect a resistor divider to 5V supply to set the condition to enter and exit Panel Mode (PM).", 17 AVOUT (in) "Output voltage sensing pin", 18 A4 (in) "A/D Input Channel 4. Connect a resistor divider to 5V supply to set the maximum output current.", 19 AIIN (in) "Input current sensing pin", 20 A6 (in) "A/D Input Channel 6. Connect through resistor divider to 5V supply to set the output voltage slew rate and various PM configurations.", 21 AIOUT (in) "Output current sensing pin", 22 I2C2 (in) "Addressing for I2C communication", 23 NC4 "No Connect. This pin should be connected with 60.4k pull-up resistor to 5V.", 24 LIB (out) "Low side boost PWM output", 25 HIB (out) "High side boost PWM output", 26 HIA (out) "High side buck PWM output", 27 LIA (out) "Low side buck PWM output", 28 PM (in) "Panel Mode Pin. Active low. Pulling this pin low will force the chip in Panel Mode."

## SM72442E/NOPB
designator U?
Programmable Maximum Power Point Tracking Controller for Photovoltaic Solar Panels, 28-pin TSSOP, 250 Reel; PartNumber: SM72442E/NOPB; Manufacturer: National Semiconductor; PackageTopMarking: NSUZXYTTE#*S02442; PowerWise: N; CompType: Interface IC; High-Reliability: Y; DatasheetVersion: Feb-2011; PackageVersion: revD, Jan-2005; PackageReference: MTC28; PackageDescription: Molded TSSOP, Jedec, 9.7 x 4.4 x 0.9mm Body, 28 Lead, 0.65mm Pitch; RoHS: Y; PinCount: 28; Code_JEDEC: MO-153-AE; ComponentLink1Description: Manufacturer URL; ComponentLink1URL: http://www.national.com/; ComponentLink2Description: SM72442 Datasheet; ComponentLink2URL: http://www.national.com/ds/SM/SM72442.pdf; ComponentLink3Description: SM72442 Web Page; ComponentLink3URL: http://www.national.com/pf/SM/SM72442.html; ComponentLink4Description: MTC28 Package Page; ComponentLink4URL: http://www.national.com/packaging/folders/mtc28.html
footprint MTC28_N (TSOP, 28-Leads, Body 9.7x4.4mm, Pitch 0.65mm, IPC Medium Density)
footprint MTC28_L (TSOP, 28-Leads, Body 9.7x4.4mm, Pitch 0.65mm, IPC High Density)
footprint MTC28_M (TSOP, 28-Leads, Body 9.7x4.4mm, Pitch 0.65mm, IPC Low Density)
pins: 1 ~{RST} (in) "Active low signal. External reset input signal to the digital circuit.", 2 NC1 "Reserved for test only. This pin should be grounded", 3 VDDD (power) "Digital supply voltage.", 4 VSSD (power) "Digital ground. The ground return for the digital supply and signals.", 5 NC2 "No Connect. This pin should be pulled up to the 5V supply using 10k resistor", 6 I2C0 (in) "Addressing for I2C communication", 7 I2C1 (in) "Addressing for I2C communication", 8 SCL (io) "I2C clock", 9 SDA (io) "I2C data", 10 NC3 "Reserved for test only. This pin should be grounded", 11 PM_OUT (out) "When Panel Mode is active, this pin will output a 400 kHz square wave signal with amplitude of 5V. Otherwise, it will stays low", 12 VDDA (power) "Analog supply voltage. This voltage is also used as the reference voltage.", 13 VSSA (power) "Analog ground. The ground return for the analog supply and signals.", 14 A0 (in) "A/D Input Channel 0. Connect a resistor divider to 5V supply to set the maximum output voltage.", 15 AVIN (in) "Input voltage sensing pin", 16 A2 (in) "A/D Input Channel 2. Connect a resistor divider to 5V supply to set the condition to enter and exit Panel Mode (PM).", 17 AVOUT (in) "Output voltage sensing pin", 18 A4 (in) "A/D Input Channel 4. Connect a resistor divider to 5V supply to set the maximum output current.", 19 AIIN (in) "Input current sensing pin", 20 A6 (in) "A/D Input Channel 6. Connect through resistor divider to 5V supply to set the output voltage slew rate and various PM configurations.", 21 AIOUT (in) "Output current sensing pin", 22 I2C2 (in) "Addressing for I2C communication", 23 NC4 "No Connect. This pin should be connected with 60.4k pull-up resistor to 5V.", 24 LIB (out) "Low side boost PWM output", 25 HIB (out) "High side boost PWM output", 26 HIA (out) "High side buck PWM output", 27 LIA (out) "Low side buck PWM output", 28 PM (in) "Panel Mode Pin. Active low. Pulling this pin low will force the chip in Panel Mode."

## SM72442MT/NOPB
designator U?
Programmable Maximum Power Point Tracking Controller for Photovoltaic Solar Panels, 28-pin TSSOP, 48 Rail; PartNumber: SM72442MT/NOPB; Manufacturer: National Semiconductor; PackageTopMarking: NSUZXYTTE#*SO2442; PowerWise: N; CompType: Interface IC; High-Reliability: Y; DatasheetVersion: May-2011; PackageVersion: revD, Jan-2005; PackageReference: MTC28; PackageDescription: Molded TSSOP, Jedec, 9.7 x 4.4 x 0.9mm Body, 28 Lead, 0.65mm Pitch; RoHS: Y; PinCount: 28; Code_JEDEC: MO-153-AE; ComponentLink1Description: Manufacturer URL; ComponentLink1URL: http://www.national.com/; ComponentLink2Description: SM72442 Datasheet; ComponentLink2URL: http://www.national.com/ds/SM/SM72442.pdf; ComponentLink3Description: SM72442 Web Page; ComponentLink3URL: http://www.national.com/pf/SM/SM72442.html; ComponentLink4Description: MTC28 Package Page; ComponentLink4URL: http://www.national.com/packaging/folders/mtc28.html
footprint MTC28_N (TSOP, 28-Leads, Body 9.7x4.4mm, Pitch 0.65mm, IPC Medium Density)
footprint MTC28_L (TSOP, 28-Leads, Body 9.7x4.4mm, Pitch 0.65mm, IPC High Density)
footprint MTC28_M (TSOP, 28-Leads, Body 9.7x4.4mm, Pitch 0.65mm, IPC Low Density)
pins: 1 ~{RST} (in) "Active low signal. External reset input signal to the digital circuit.", 2 NC1 "Reserved for test only. This pin should be grounded", 3 VDDD (power) "Digital supply voltage.", 4 VSSD (power) "Digital ground. The ground return for the digital supply and signals.", 5 NC2 "No Connect. This pin should be pulled up to the 5V supply using 10k resistor", 6 I2C0 (in) "Addressing for I2C communication", 7 I2C1 (in) "Addressing for I2C communication", 8 SCL (io) "I2C clock", 9 SDA (io) "I2C data", 10 NC3 "Reserved for test only. This pin should be grounded", 11 PM_OUT (out) "When Panel Mode is active, this pin will output a 400 kHz square wave signal with amplitude of 5V. Otherwise, it will stays low", 12 VDDA (power) "Analog supply voltage. This voltage is also used as the reference voltage.", 13 VSSA (power) "Analog ground. The ground return for the analog supply and signals.", 14 A0 (in) "A/D Input Channel 0. Connect a resistor divider to 5V supply to set the maximum output voltage.", 15 AVIN (in) "Input voltage sensing pin", 16 A2 (in) "A/D Input Channel 2. Connect a resistor divider to 5V supply to set the condition to enter and exit Panel Mode (PM).", 17 AVOUT (in) "Output voltage sensing pin", 18 A4 (in) "A/D Input Channel 4. Connect a resistor divider to 5V supply to set the maximum output current.", 19 AIIN (in) "Input current sensing pin", 20 A6 (in) "A/D Input Channel 6. Connect through resistor divider to 5V supply to set the output voltage slew rate and various PM configurations.", 21 AIOUT (in) "Output current sensing pin", 22 I2C2 (in) "Addressing for I2C communication", 23 NC4 "No Connect. This pin should be connected with 60.4k pull-up resistor to 5V.", 24 LIB (out) "Low side boost PWM output", 25 HIB (out) "High side boost PWM output", 26 HIA (out) "High side buck PWM output", 27 LIA (out) "Low side buck PWM output", 28 PM (in) "Panel Mode Pin. Active low. Pulling this pin low will force the chip in Panel Mode."

## SM72442MTE/NOPB
designator U?
Programmable Maximum Power Point Tracking Controller for Photovoltaic Solar Panels, 28-pin TSSOP, 250 Reel; PartNumber: SM72442MTE/NOPB; Manufacturer: National Semiconductor; PackageTopMarking: NSUZXYTTE#*SO2442; PowerWise: N; CompType: Interface IC; High-Reliability: Y; DatasheetVersion: May-2011; PackageVersion: revD, Jan-2005; PackageReference: MTC28; PackageDescription: Molded TSSOP, Jedec, 9.7 x 4.4 x 0.9mm Body, 28 Lead, 0.65mm Pitch; RoHS: Y; PinCount: 28; Code_JEDEC: MO-153-AE; ComponentLink1Description: Manufacturer URL; ComponentLink1URL: http://www.national.com/; ComponentLink2Description: SM72442 Datasheet; ComponentLink2URL: http://www.national.com/ds/SM/SM72442.pdf; ComponentLink3Description: SM72442 Web Page; ComponentLink3URL: http://www.national.com/pf/SM/SM72442.html; ComponentLink4Description: MTC28 Package Page; ComponentLink4URL: http://www.national.com/packaging/folders/mtc28.html
footprint MTC28_N (TSOP, 28-Leads, Body 9.7x4.4mm, Pitch 0.65mm, IPC Medium Density)
footprint MTC28_L (TSOP, 28-Leads, Body 9.7x4.4mm, Pitch 0.65mm, IPC High Density)
footprint MTC28_M (TSOP, 28-Leads, Body 9.7x4.4mm, Pitch 0.65mm, IPC Low Density)
pins: 1 ~{RST} (in) "Active low signal. External reset input signal to the digital circuit.", 2 NC1 "Reserved for test only. This pin should be grounded", 3 VDDD (power) "Digital supply voltage.", 4 VSSD (power) "Digital ground. The ground return for the digital supply and signals.", 5 NC2 "No Connect. This pin should be pulled up to the 5V supply using 10k resistor", 6 I2C0 (in) "Addressing for I2C communication", 7 I2C1 (in) "Addressing for I2C communication", 8 SCL (io) "I2C clock", 9 SDA (io) "I2C data", 10 NC3 "Reserved for test only. This pin should be grounded", 11 PM_OUT (out) "When Panel Mode is active, this pin will output a 400 kHz square wave signal with amplitude of 5V. Otherwise, it will stays low", 12 VDDA (power) "Analog supply voltage. This voltage is also used as the reference voltage.", 13 VSSA (power) "Analog ground. The ground return for the analog supply and signals.", 14 A0 (in) "A/D Input Channel 0. Connect a resistor divider to 5V supply to set the maximum output voltage.", 15 AVIN (in) "Input voltage sensing pin", 16 A2 (in) "A/D Input Channel 2. Connect a resistor divider to 5V supply to set the condition to enter and exit Panel Mode (PM).", 17 AVOUT (in) "Output voltage sensing pin", 18 A4 (in) "A/D Input Channel 4. Connect a resistor divider to 5V supply to set the maximum output current.", 19 AIIN (in) "Input current sensing pin", 20 A6 (in) "A/D Input Channel 6. Connect through resistor divider to 5V supply to set the output voltage slew rate and various PM configurations.", 21 AIOUT (in) "Output current sensing pin", 22 I2C2 (in) "Addressing for I2C communication", 23 NC4 "No Connect. This pin should be connected with 60.4k pull-up resistor to 5V.", 24 LIB (out) "Low side boost PWM output", 25 HIB (out) "High side boost PWM output", 26 HIA (out) "High side buck PWM output", 27 LIA (out) "Low side buck PWM output", 28 PM (in) "Panel Mode Pin. Active low. Pulling this pin low will force the chip in Panel Mode."